# EAGLE library part SMS-CART_PINS (library sms_adapter)
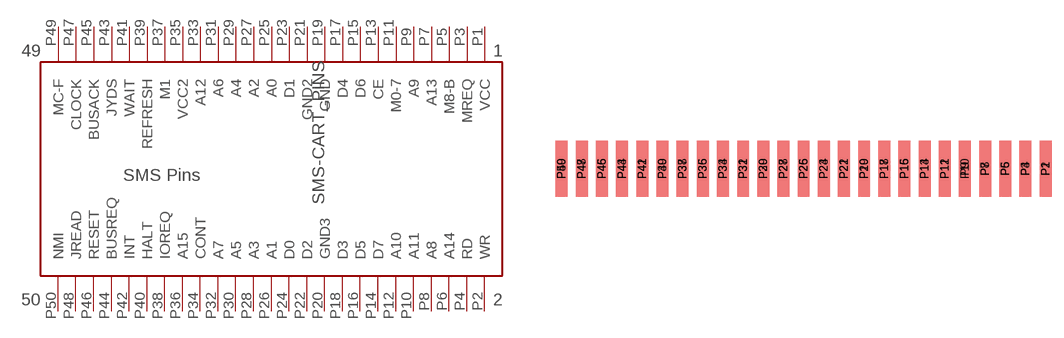
[diagram p0: symbol with the pads of SMS_PINS; footprint SMS_PINS]

Designator prefix -

## SMS-CART_PINS  [SMS_PINS]
P1  VCC
P2  WR
P3  MREQ
P4  RD
P5  M8-B
P6  A14
P7  A13
P8  A8
P9  A9
P10  A11
P11  M0-7
P12  A10
P13  CE
P14  D7
P15  D6
P16  D5
P17  D4
P18  D3
P19  GND
P20  GND3
P21  GND2
P22  D2
P23  D1
P24  D0
P25  A0
P26  A1
P27  A2
P28  A3
P29  A4
P30  A5
P31  A6
P32  A7
P33  A12
P34  CONT
P35  VCC2
P36  A15
P37  M1
P38  IOREQ
P39  REFRESH
P40  HALT
P41  WAIT
P42  INT
P43  JYDS
P44  BUSREQ
P45  BUSACK
P46  RESET
P47  CLOCK
P48  JREAD
P49  MC-F
P50  NMI

## Footprint SMS_PINS (pad centres in mm)
smd 1.5 x 7 bottom: P1 30.48,-0.5; P3 27.94,-0.5; P5 25.4,-0.5; P7 22.86,-0.5; P9 20.32,-0.5; P11 17.78,-0.5; P13 15.24,-0.5; P15 12.7,-0.5; P17 10.16,-0.5; P19 7.62,-0.5; P21 5.08,-0.5; P23 2.54,-0.5; P25 0,-0.5; P27 -2.54,-0.5; P29 -5.08,-0.5; P31 -7.62,-0.5; P33 -10.16,-0.5; P35 -12.7,-0.5; P37 -15.24,-0.5; P39 -17.78,-0.5; P41 -20.32,-0.5; P43 -22.86,-0.5; P45 -25.4,-0.5; P47 -27.94,-0.5; P49 -30.48,-0.5
smd 1.5 x 7: P2 30.48,-0.5; P4 27.94,-0.5; P6 25.4,-0.5; P8 22.86,-0.5; P10 20.32,-0.5; P12 17.78,-0.5; P14 15.24,-0.5; P16 12.7,-0.5; P18 10.16,-0.5; P20 7.62,-0.5; P22 5.08,-0.5; P24 2.54,-0.5; P26 0,-0.5; P28 -2.54,-0.5; P30 -5.08,-0.5; P32 -7.62,-0.5; P34 -10.16,-0.5; P36 -12.7,-0.5; P38 -15.24,-0.5; P40 -17.78,-0.5; P42 -20.32,-0.5; P44 -22.86,-0.5; P46 -25.4,-0.5; P48 -27.94,-0.5; P50 -30.48,-0.5